# EAGLE library part ESP1866-01S (library custom_components)
ESP8622-01S A circuit board based on the RSP8622 WiFi module.
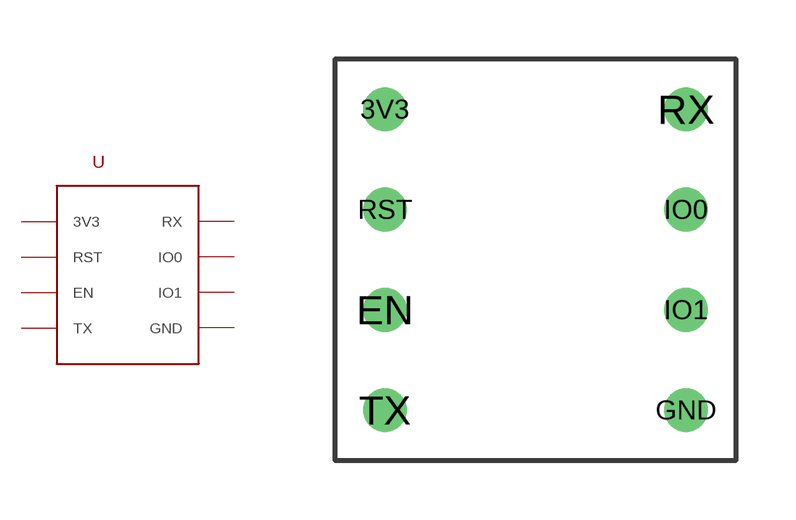
[diagram p1: symbol with the pads of ESP8622-01S-FOOT; footprint ESP8622-01S-FOOT]

Designator prefix -

## ESP1866-01S  [ESP8622-01S-FOOT]
3V3  3V3  pwr
EN  EN  in
GND  GND  pwr
IO0  IO0
IO1  IO1
RST  RST  in
RX  RX  in
TX  TX  out

## Footprint ESP8622-01S-FOOT (pad centres in mm)
drill 0.6: 3V3 -3.81,3.81; EN -3.81,-1.27; GND 3.81,-3.81; IO0 3.81,1.27; IO1 3.81,-1.27; RST -3.81,1.27; RX 3.81,3.81; TX -3.81,-3.81